# Altium integrated library AMP Memory Module DIMM II.IntLib: 46 symbols (part 2 of 2)
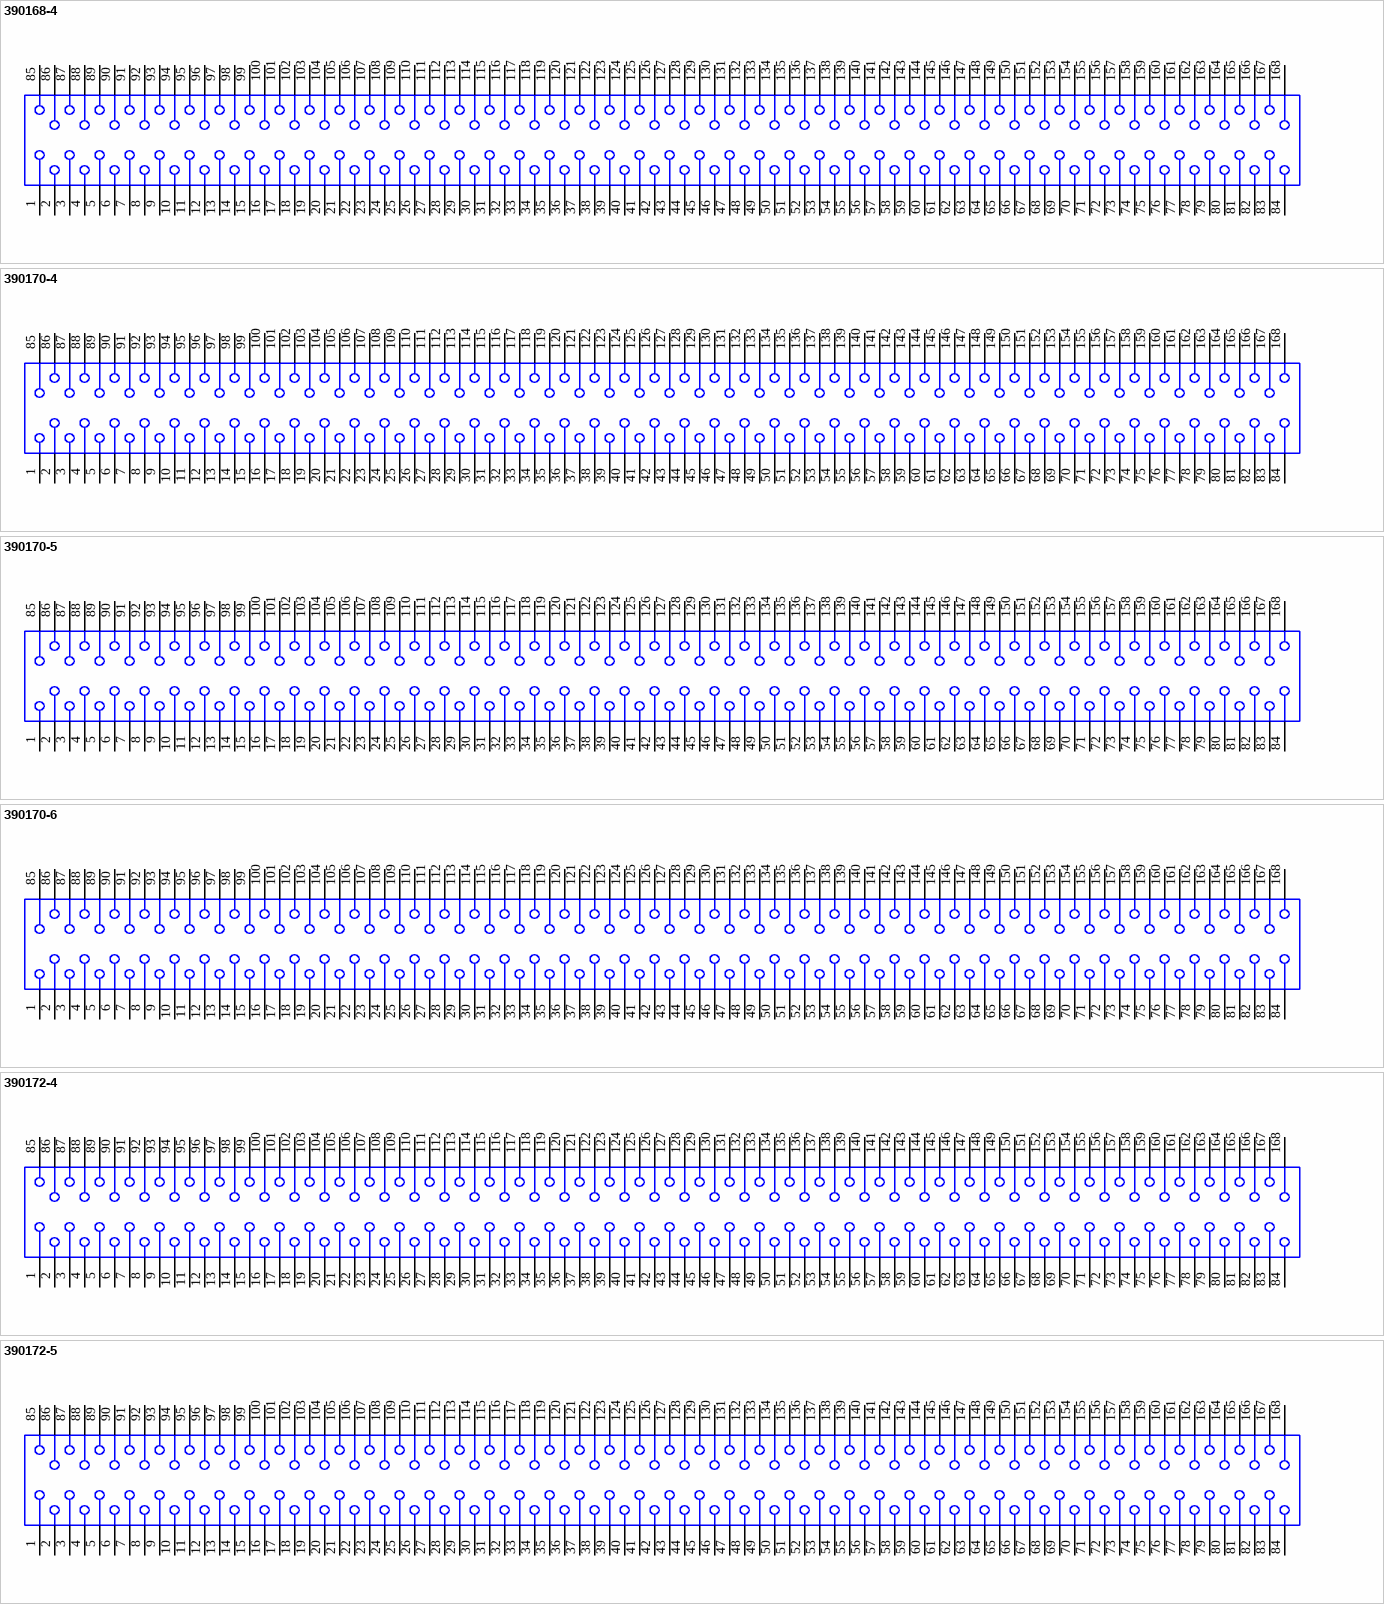
[diagram p8: symbols 390168-4 to 390172-5]

## 390170-6
designator J?
168 Position, Center Plastic Post 2.60 [.103] Soldertail, Low Profile DIMM 2P; Positions: 168; Rows: Dual; InsertionStyle: Direct Insert; EjectorLocation: Both Ends; PCB_Layout: Complies with manufacturer's recommendation.; DrillSize: Corresponds to nominal value.; ComponentAvailability: Obsolete; Published: 15-Jun-2001; LatestRevisionDate: 17-Jul-2002; LatestRevisionNote: Re-released for DXP Platform.; DatasheetDocument: 2-Apr-1998; PackageDocument: 02-Apr-1998; PackageReference: 390170-6; Publisher: Altium Limited; Orientation: 25°; ComponentLink1Description: Manufacturer Link; ComponentLink1URL: http://www.tycoelectronics.com/; ComponentLink2Description: Packaging Specification; ComponentLink2URL: http://ecommas.tycoelectronics.com/commerce/DocumentDelivery/DDEController?Action=showdoc&DocId=Customer+Drawing%7F390170%7FD%7Fpdf%7FEnglish%7FC_390170_D.pdf
footprint 390170-6 (Connector; DIMM II; 168 Position; Orientation 25°)
signal-integrity model Memory Module
pins: 1, 2, 3, 4, 5, 6, 7, 8, 9, 10, 11, 12, 13, 14, 15, 16, 17, 18, 19, 20, 21, 22, 23, 24, 25, 26, 27, 28, 29, 30, 31, 32, 33, 34, 35, 36, 37, 38, 39, 40, 41, 42, 43, 44, 45, 46, 47, 48, 49, 50, 51, 52, 53, 54, 55, 56, 57, 58, 59, 60, 61, 62, 63, 64, 65, 66, 67, 68, 69, 70, 71, 72, 73, 74, 75, 76, 77, 78, 79, 80, 81, 82, 83, 84, 85, 86, 87, 88, 89, 90, 91, 92, 93, 94, 95, 96, 97, 98, 99, 100, 101, 102, 103, 104, 105, 106, 107, 108, 109, 110, 111, 112, 113, 114, 115, 116, 117, 118, 119, 120, 121, 122, 123, 124, 125, 126, 127, 128, 129, 130, 131, 132, 133, 134, 135, 136, 137, 138, 139, 140, 141, 142, 143, 144, 145, 146, 147, 148, 149, 150, 151, 152, 153, 154, 155, 156, 157, 158, 159, 160, 161, 162, 163, 164, 165, 166, 167, 168

## 390172-4
designator J?
Dual Read-Out, Right Angle, DIMM Version II, 168 Position, 17.78mm Locking Extractors (No Barb); Positions: 168; InsertionStyle: Direct Insert; EjectorLocation: Both Ends; PCB_Layout: Complies with manufacturer's recommendation.; DrillSize: Corresponds to nominal value.; Published: 15-Jun-2001; LatestRevisionDate: 17-Jul-2002; LatestRevisionNote: Re-released for DXP Platform.; DatasheetDocument: 29-Jun-1998; PackageDocument: 29-Jun-1998; PackageReference: 390172-4; Publisher: Altium Limited; Orientation: Right Angle; Rows: Dual; ComponentLink1Description: Manufacturer Link; ComponentLink1URL: http://www.tycoelectronics.com/; ComponentLink2Description: Packaging Specification; ComponentLink2URL: http://ecommas.tycoelectronics.com/commerce/DocumentDelivery/DDEController?Action=showdoc&DocId=Customer+Drawing%7F390172%7FM%7Fpdf%7FEnglish%7FC_390172_M.pdf
footprint 390172-4 (Connector; DIMM II; 168 Position; Right Angle)
signal-integrity model Memory Module
pins: 1, 2, 3, 4, 5, 6, 7, 8, 9, 10, 11, 12, 13, 14, 15, 16, 17, 18, 19, 20, 21, 22, 23, 24, 25, 26, 27, 28, 29, 30, 31, 32, 33, 34, 35, 36, 37, 38, 39, 40, 41, 42, 43, 44, 45, 46, 47, 48, 49, 50, 51, 52, 53, 54, 55, 56, 57, 58, 59, 60, 61, 62, 63, 64, 65, 66, 67, 68, 69, 70, 71, 72, 73, 74, 75, 76, 77, 78, 79, 80, 81, 82, 83, 84, 85, 86, 87, 88, 89, 90, 91, 92, 93, 94, 95, 96, 97, 98, 99, 100, 101, 102, 103, 104, 105, 106, 107, 108, 109, 110, 111, 112, 113, 114, 115, 116, 117, 118, 119, 120, 121, 122, 123, 124, 125, 126, 127, 128, 129, 130, 131, 132, 133, 134, 135, 136, 137, 138, 139, 140, 141, 142, 143, 144, 145, 146, 147, 148, 149, 150, 151, 152, 153, 154, 155, 156, 157, 158, 159, 160, 161, 162, 163, 164, 165, 166, 167, 168

## 390172-5
designator J?
Dual Read-Out, Right Angle, DIMM Version II, 168 Position, 17.78mm Locking Extractors (No Barb); Positions: 168; InsertionStyle: Direct Insert; EjectorLocation: Both Ends; PCB_Layout: Complies with manufacturer's recommendation.; DrillSize: Corresponds to nominal value.; Published: 15-Jun-2001; LatestRevisionDate: 17-Jul-2002; LatestRevisionNote: Re-released for DXP Platform.; DatasheetDocument: 29-Jun-1998; PackageDocument: 29-Jun-1998; PackageReference: 390172-5; Publisher: Altium Limited; Orientation: Right Angle; Rows: Dual; ComponentLink1Description: Manufacturer Link; ComponentLink1URL: http://www.tycoelectronics.com/; ComponentLink2Description: Packaging Specification; ComponentLink2URL: http://ecommas.tycoelectronics.com/commerce/DocumentDelivery/DDEController?Action=showdoc&DocId=Customer+Drawing%7F390172%7FM%7Fpdf%7FEnglish%7FC_390172_M.pdf
footprint 390172-5 (Connector; DIMM II; 168 Position; Right Angle)
signal-integrity model Memory Module
pins: 1, 2, 3, 4, 5, 6, 7, 8, 9, 10, 11, 12, 13, 14, 15, 16, 17, 18, 19, 20, 21, 22, 23, 24, 25, 26, 27, 28, 29, 30, 31, 32, 33, 34, 35, 36, 37, 38, 39, 40, 41, 42, 43, 44, 45, 46, 47, 48, 49, 50, 51, 52, 53, 54, 55, 56, 57, 58, 59, 60, 61, 62, 63, 64, 65, 66, 67, 68, 69, 70, 71, 72, 73, 74, 75, 76, 77, 78, 79, 80, 81, 82, 83, 84, 85, 86, 87, 88, 89, 90, 91, 92, 93, 94, 95, 96, 97, 98, 99, 100, 101, 102, 103, 104, 105, 106, 107, 108, 109, 110, 111, 112, 113, 114, 115, 116, 117, 118, 119, 120, 121, 122, 123, 124, 125, 126, 127, 128, 129, 130, 131, 132, 133, 134, 135, 136, 137, 138, 139, 140, 141, 142, 143, 144, 145, 146, 147, 148, 149, 150, 151, 152, 153, 154, 155, 156, 157, 158, 159, 160, 161, 162, 163, 164, 165, 166, 167, 168

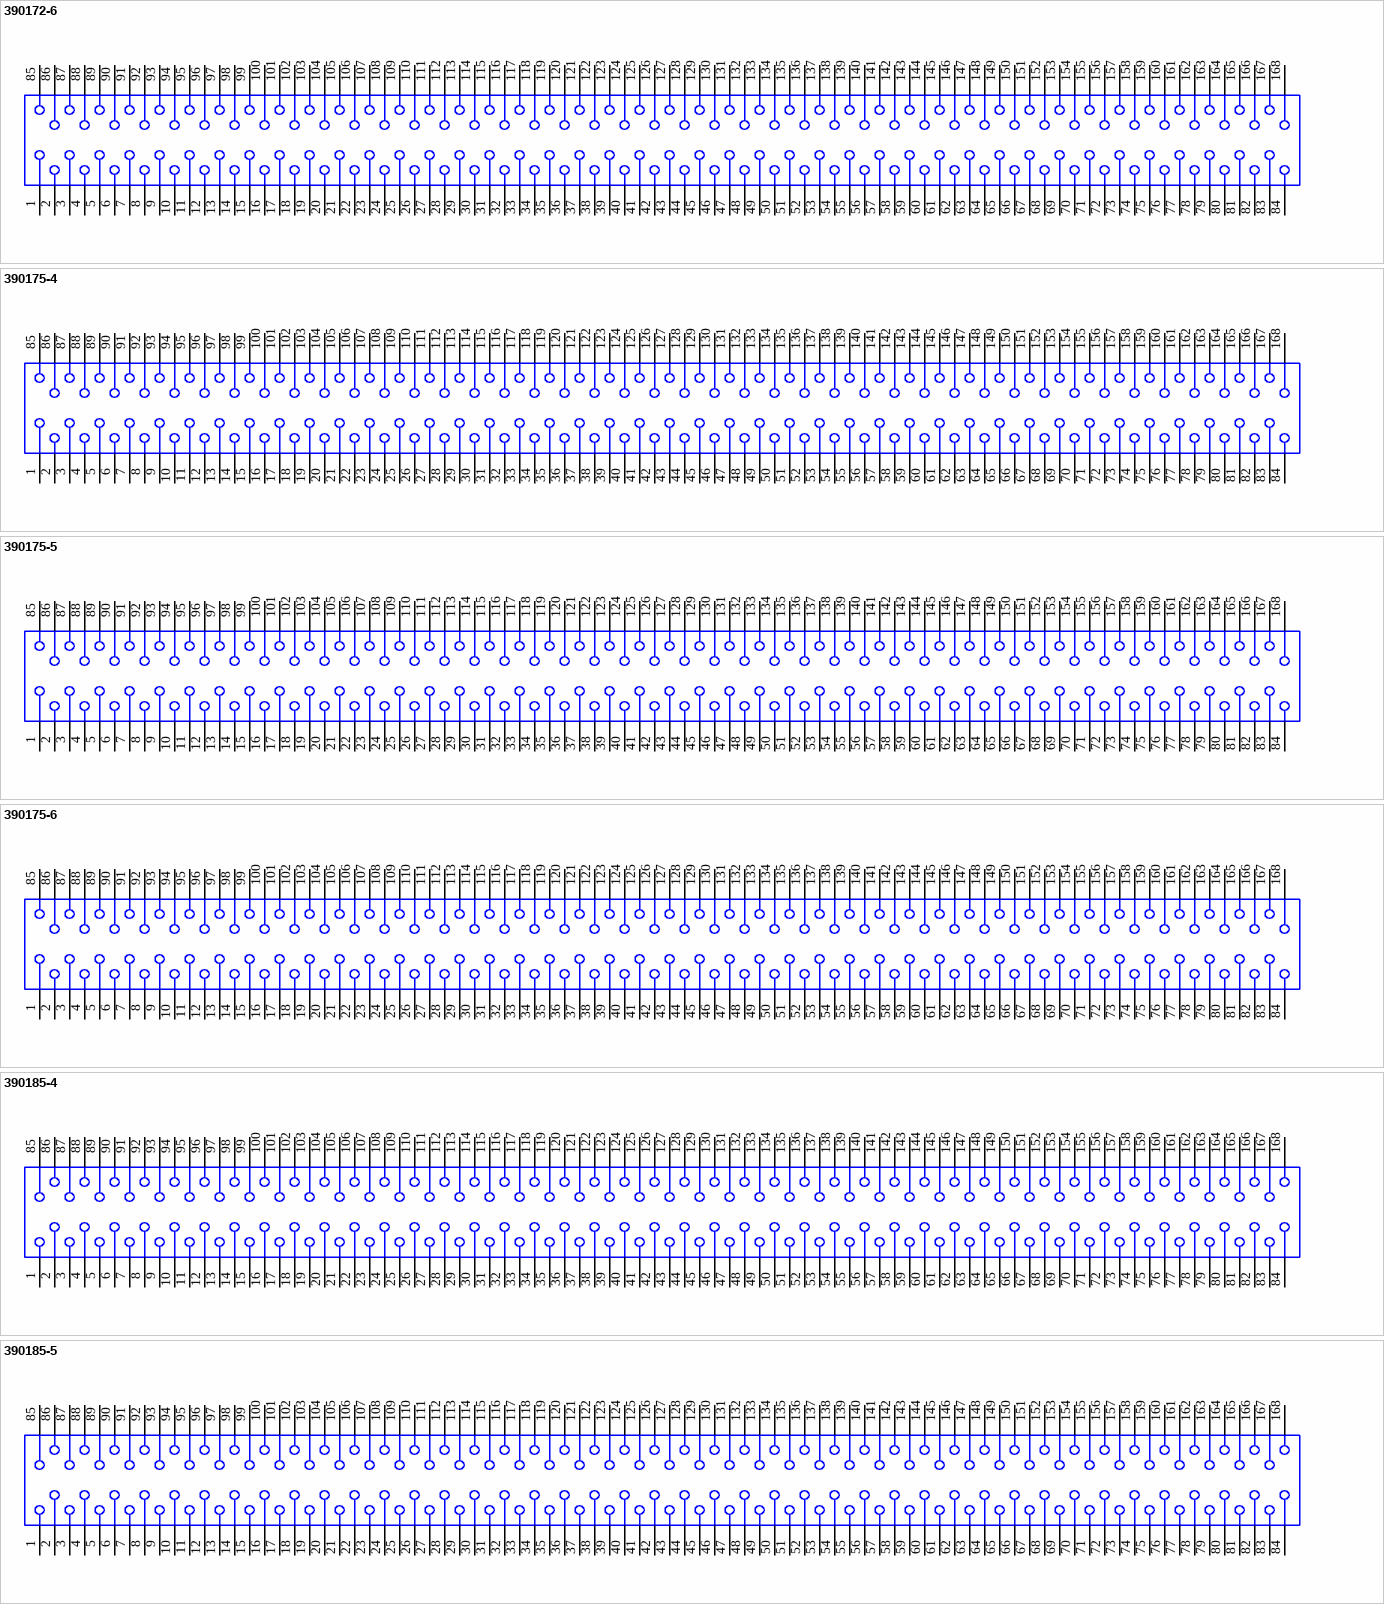
[diagram p5: symbols 390172-6 to 390185-5]

## 390172-6
designator J?
Dual Read-Out, Right Angle, DIMM Version II, 168 Position, 17.78mm Locking Extractors (No Barb); Positions: 168; InsertionStyle: Direct Insert; EjectorLocation: Both Ends; PCB_Layout: Complies with manufacturer's recommendation.; DrillSize: Corresponds to nominal value.; Published: 15-Jun-2001; LatestRevisionDate: 17-Jul-2002; LatestRevisionNote: Re-released for DXP Platform.; DatasheetDocument: 29-Jun-1998; PackageDocument: 29-Jun-1998; PackageReference: 390172-6; Publisher: Altium Limited; Orientation: Right Angle; Rows: Dual; ComponentLink1Description: Manufacturer Link; ComponentLink1URL: http://www.tycoelectronics.com/; ComponentLink2Description: Packaging Specification; ComponentLink2URL: http://ecommas.tycoelectronics.com/commerce/DocumentDelivery/DDEController?Action=showdoc&DocId=Customer+Drawing%7F390172%7FM%7Fpdf%7FEnglish%7FC_390172_M.pdf
footprint 390172-6 (Connector; DIMM II; 168 Position; Right Angle)
signal-integrity model Memory Module
pins: 1, 2, 3, 4, 5, 6, 7, 8, 9, 10, 11, 12, 13, 14, 15, 16, 17, 18, 19, 20, 21, 22, 23, 24, 25, 26, 27, 28, 29, 30, 31, 32, 33, 34, 35, 36, 37, 38, 39, 40, 41, 42, 43, 44, 45, 46, 47, 48, 49, 50, 51, 52, 53, 54, 55, 56, 57, 58, 59, 60, 61, 62, 63, 64, 65, 66, 67, 68, 69, 70, 71, 72, 73, 74, 75, 76, 77, 78, 79, 80, 81, 82, 83, 84, 85, 86, 87, 88, 89, 90, 91, 92, 93, 94, 95, 96, 97, 98, 99, 100, 101, 102, 103, 104, 105, 106, 107, 108, 109, 110, 111, 112, 113, 114, 115, 116, 117, 118, 119, 120, 121, 122, 123, 124, 125, 126, 127, 128, 129, 130, 131, 132, 133, 134, 135, 136, 137, 138, 139, 140, 141, 142, 143, 144, 145, 146, 147, 148, 149, 150, 151, 152, 153, 154, 155, 156, 157, 158, 159, 160, 161, 162, 163, 164, 165, 166, 167, 168

## 390175-4
designator J?
Dual Read-Out, Right Angle, DIMM Version II, 168 Position 17.78mm Locking Extractors; Positions: 168; InsertionStyle: Direct Insert; EjectorLocation: Both Ends; PCB_Layout: Complies with manufacturer's recommendation.; DrillSize: Corresponds to nominal value.; ComponentAvailability: Obsolete; Published: 15-Jun-2001; LatestRevisionDate: 17-Jul-2002; LatestRevisionNote: Re-released for DXP Platform.; DatasheetDocument: 23-Jun-1998; PackageDocument: 23-Jun-1998; PackageReference: 390175-4; Publisher: Altium Limited; Orientation: Right Angle; Rows: Dual; ComponentLink1Description: Manufacturer Link; ComponentLink1URL: http://www.tycoelectronics.com/; ComponentLink2Description: Packaging Specification; ComponentLink2URL: http://ecommas.tycoelectronics.com/commerce/DocumentDelivery/DDEController?Action=showdoc&DocId=Customer+Drawing%7F390175%7FN%7Fpdf%7FEnglish%7FC_390175_N.pdf
footprint 390175-4 (Connector; DIMM II; 168 Position; Right Angle)
signal-integrity model Memory Module
pins: 1, 2, 3, 4, 5, 6, 7, 8, 9, 10, 11, 12, 13, 14, 15, 16, 17, 18, 19, 20, 21, 22, 23, 24, 25, 26, 27, 28, 29, 30, 31, 32, 33, 34, 35, 36, 37, 38, 39, 40, 41, 42, 43, 44, 45, 46, 47, 48, 49, 50, 51, 52, 53, 54, 55, 56, 57, 58, 59, 60, 61, 62, 63, 64, 65, 66, 67, 68, 69, 70, 71, 72, 73, 74, 75, 76, 77, 78, 79, 80, 81, 82, 83, 84, 85, 86, 87, 88, 89, 90, 91, 92, 93, 94, 95, 96, 97, 98, 99, 100, 101, 102, 103, 104, 105, 106, 107, 108, 109, 110, 111, 112, 113, 114, 115, 116, 117, 118, 119, 120, 121, 122, 123, 124, 125, 126, 127, 128, 129, 130, 131, 132, 133, 134, 135, 136, 137, 138, 139, 140, 141, 142, 143, 144, 145, 146, 147, 148, 149, 150, 151, 152, 153, 154, 155, 156, 157, 158, 159, 160, 161, 162, 163, 164, 165, 166, 167, 168

## 390175-5
designator J?
Dual Read-Out, Right Angle, DIMM Version II, 168 Position 17.78mm Locking Extractors; Positions: 168; InsertionStyle: Direct Insert; EjectorLocation: Both Ends; PCB_Layout: Complies with manufacturer's recommendation.; DrillSize: Corresponds to nominal value.; ComponentAvailability: Obsolete; Published: 15-Jun-2001; LatestRevisionDate: 17-Jul-2002; LatestRevisionNote: Re-released for DXP Platform.; DatasheetDocument: 23-Jun-1998; PackageDocument: 23-Jun-1998; PackageReference: 390175-5; Publisher: Altium Limited; Orientation: Right Angle; Rows: Dual; ComponentLink1Description: Manufacturer Link; ComponentLink1URL: http://www.tycoelectronics.com/; ComponentLink2Description: Packaging Specification; ComponentLink2URL: http://ecommas.tycoelectronics.com/commerce/DocumentDelivery/DDEController?Action=showdoc&DocId=Customer+Drawing%7F390175%7FN%7Fpdf%7FEnglish%7FC_390175_N.pdf
footprint 390175-5 (Connector; DIMM II; 168 Position; Right Angle)
signal-integrity model Memory Module
pins: 1, 2, 3, 4, 5, 6, 7, 8, 9, 10, 11, 12, 13, 14, 15, 16, 17, 18, 19, 20, 21, 22, 23, 24, 25, 26, 27, 28, 29, 30, 31, 32, 33, 34, 35, 36, 37, 38, 39, 40, 41, 42, 43, 44, 45, 46, 47, 48, 49, 50, 51, 52, 53, 54, 55, 56, 57, 58, 59, 60, 61, 62, 63, 64, 65, 66, 67, 68, 69, 70, 71, 72, 73, 74, 75, 76, 77, 78, 79, 80, 81, 82, 83, 84, 85, 86, 87, 88, 89, 90, 91, 92, 93, 94, 95, 96, 97, 98, 99, 100, 101, 102, 103, 104, 105, 106, 107, 108, 109, 110, 111, 112, 113, 114, 115, 116, 117, 118, 119, 120, 121, 122, 123, 124, 125, 126, 127, 128, 129, 130, 131, 132, 133, 134, 135, 136, 137, 138, 139, 140, 141, 142, 143, 144, 145, 146, 147, 148, 149, 150, 151, 152, 153, 154, 155, 156, 157, 158, 159, 160, 161, 162, 163, 164, 165, 166, 167, 168

## 390175-6
designator J?
Dual Read-Out, Right Angle, DIMM Version II, 168 Position 17.78mm Locking Extractors; Positions: 168; InsertionStyle: Direct Insert; EjectorLocation: Both Ends; PCB_Layout: Complies with manufacturer's recommendation.; DrillSize: Corresponds to nominal value.; ComponentAvailability: Obsolete; Published: 15-Jun-2001; LatestRevisionDate: 17-Jul-2002; LatestRevisionNote: Re-released for DXP Platform.; DatasheetDocument: 23-Jun-1998; PackageDocument: 23-Jun-1998; PackageReference: 390175-6; Publisher: Altium Limited; Orientation: Right Angle; Rows: Dual; ComponentLink1Description: Manufacturer Link; ComponentLink1URL: http://www.tycoelectronics.com/; ComponentLink2Description: Packaging Specification; ComponentLink2URL: http://ecommas.tycoelectronics.com/commerce/DocumentDelivery/DDEController?Action=showdoc&DocId=Customer+Drawing%7F390175%7FN%7Fpdf%7FEnglish%7FC_390175_N.pdf
footprint 390175-6 (Connector; DIMM II; 168 Position; Right Angle)
signal-integrity model Memory Module
pins: 1, 2, 3, 4, 5, 6, 7, 8, 9, 10, 11, 12, 13, 14, 15, 16, 17, 18, 19, 20, 21, 22, 23, 24, 25, 26, 27, 28, 29, 30, 31, 32, 33, 34, 35, 36, 37, 38, 39, 40, 41, 42, 43, 44, 45, 46, 47, 48, 49, 50, 51, 52, 53, 54, 55, 56, 57, 58, 59, 60, 61, 62, 63, 64, 65, 66, 67, 68, 69, 70, 71, 72, 73, 74, 75, 76, 77, 78, 79, 80, 81, 82, 83, 84, 85, 86, 87, 88, 89, 90, 91, 92, 93, 94, 95, 96, 97, 98, 99, 100, 101, 102, 103, 104, 105, 106, 107, 108, 109, 110, 111, 112, 113, 114, 115, 116, 117, 118, 119, 120, 121, 122, 123, 124, 125, 126, 127, 128, 129, 130, 131, 132, 133, 134, 135, 136, 137, 138, 139, 140, 141, 142, 143, 144, 145, 146, 147, 148, 149, 150, 151, 152, 153, 154, 155, 156, 157, 158, 159, 160, 161, 162, 163, 164, 165, 166, 167, 168

## 390185-4
designator J?
168 Position, Center Plastic Post 3.18 [.125] Soldertail, Low Profile DIMM 2P; Positions: 168; Rows: Dual; InsertionStyle: Direct Insert; EjectorLocation: Both Ends; PCB_Layout: Complies with manufacturer's recommendation.; DrillSize: Corresponds to nominal value.; Published: 15-Jun-2001; LatestRevisionDate: 17-Jul-2002; LatestRevisionNote: Re-released for DXP Platform.; DatasheetDocument: 2-Apr-1998; PackageDocument: 02-Apr-1998; PackageReference: 390185-4; Publisher: Altium Limited; Orientation: 25°; ComponentLink1Description: Manufacturer Link; ComponentLink1URL: http://www.tycoelectronics.com/; ComponentLink2Description: Packaging Specification; ComponentLink2URL: http://ecommas.tycoelectronics.com/commerce/DocumentDelivery/DDEController?Action=showdoc&DocId=Customer+Drawing%7F390185%7FE%7Fpdf%7FEnglish%7FENG_CD_390185_E.pdf
footprint 390185-4 (Connector; DIMM II; 168 Position; Orientation 25°)
signal-integrity model Memory Module
pins: 1, 2, 3, 4, 5, 6, 7, 8, 9, 10, 11, 12, 13, 14, 15, 16, 17, 18, 19, 20, 21, 22, 23, 24, 25, 26, 27, 28, 29, 30, 31, 32, 33, 34, 35, 36, 37, 38, 39, 40, 41, 42, 43, 44, 45, 46, 47, 48, 49, 50, 51, 52, 53, 54, 55, 56, 57, 58, 59, 60, 61, 62, 63, 64, 65, 66, 67, 68, 69, 70, 71, 72, 73, 74, 75, 76, 77, 78, 79, 80, 81, 82, 83, 84, 85, 86, 87, 88, 89, 90, 91, 92, 93, 94, 95, 96, 97, 98, 99, 100, 101, 102, 103, 104, 105, 106, 107, 108, 109, 110, 111, 112, 113, 114, 115, 116, 117, 118, 119, 120, 121, 122, 123, 124, 125, 126, 127, 128, 129, 130, 131, 132, 133, 134, 135, 136, 137, 138, 139, 140, 141, 142, 143, 144, 145, 146, 147, 148, 149, 150, 151, 152, 153, 154, 155, 156, 157, 158, 159, 160, 161, 162, 163, 164, 165, 166, 167, 168

## 390185-5
designator J?
168 Position, Center Plastic Post 3.18 [.125] Soldertail, Low Profile DIMM 2P; Positions: 168; Rows: Dual; InsertionStyle: Direct Insert; EjectorLocation: Both Ends; PCB_Layout: Complies with manufacturer's recommendation.; DrillSize: Corresponds to nominal value.; Published: 15-Jun-2001; LatestRevisionDate: 17-Jul-2002; LatestRevisionNote: Re-released for DXP Platform.; DatasheetDocument: 2-Apr-1998; PackageDocument: 02-Apr-1998; PackageReference: 390185-5; Publisher: Altium Limited; Orientation: 25°; ComponentLink1Description: Manufacturer Link; ComponentLink1URL: http://www.tycoelectronics.com/; ComponentLink2Description: Packaging Specification; ComponentLink2URL: http://ecommas.tycoelectronics.com/commerce/DocumentDelivery/DDEController?Action=showdoc&DocId=Customer+Drawing%7F390185%7FE%7Fpdf%7FEnglish%7FENG_CD_390185_E.pdf
footprint 390185-5 (Connector; DIMM II; 168 Position; Orientation 25°)
signal-integrity model Memory Module
pins: 1, 2, 3, 4, 5, 6, 7, 8, 9, 10, 11, 12, 13, 14, 15, 16, 17, 18, 19, 20, 21, 22, 23, 24, 25, 26, 27, 28, 29, 30, 31, 32, 33, 34, 35, 36, 37, 38, 39, 40, 41, 42, 43, 44, 45, 46, 47, 48, 49, 50, 51, 52, 53, 54, 55, 56, 57, 58, 59, 60, 61, 62, 63, 64, 65, 66, 67, 68, 69, 70, 71, 72, 73, 74, 75, 76, 77, 78, 79, 80, 81, 82, 83, 84, 85, 86, 87, 88, 89, 90, 91, 92, 93, 94, 95, 96, 97, 98, 99, 100, 101, 102, 103, 104, 105, 106, 107, 108, 109, 110, 111, 112, 113, 114, 115, 116, 117, 118, 119, 120, 121, 122, 123, 124, 125, 126, 127, 128, 129, 130, 131, 132, 133, 134, 135, 136, 137, 138, 139, 140, 141, 142, 143, 144, 145, 146, 147, 148, 149, 150, 151, 152, 153, 154, 155, 156, 157, 158, 159, 160, 161, 162, 163, 164, 165, 166, 167, 168

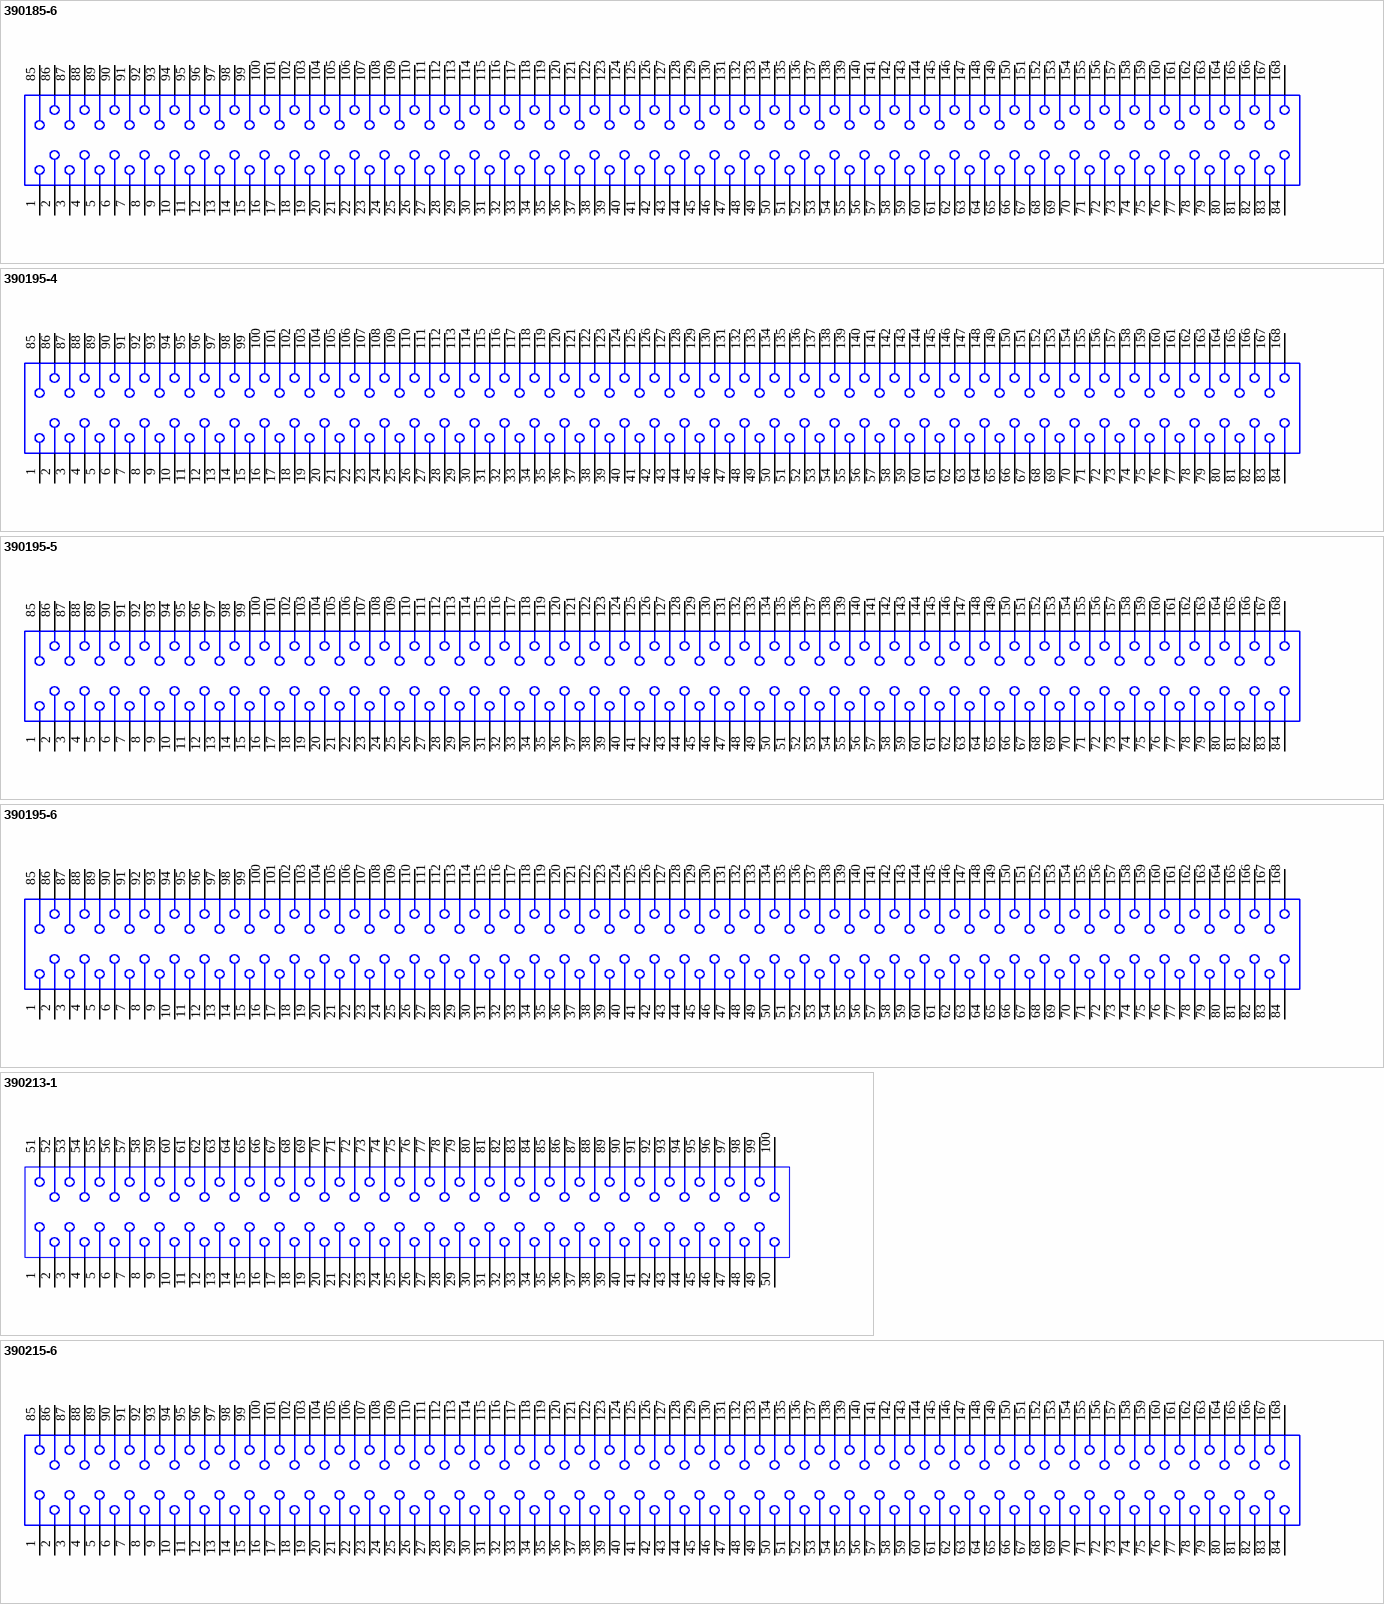
[diagram p6: symbols 390185-6 to 390215-6]

## 390185-6
designator J?
168 Position, Center Plastic Post 3.18 [.125] Soldertail, Low Profile DIMM 2P; Positions: 168; Rows: Dual; InsertionStyle: Direct Insert; EjectorLocation: Both Ends; PCB_Layout: Complies with manufacturer's recommendation.; DrillSize: Corresponds to nominal value.; Published: 15-Jun-2001; LatestRevisionDate: 17-Jul-2002; LatestRevisionNote: Re-released for DXP Platform.; DatasheetDocument: 2-Apr-1998; PackageDocument: 02-Apr-1998; PackageReference: 390185-6; Publisher: Altium Limited; Orientation: 25°; ComponentLink1Description: Manufacturer Link; ComponentLink1URL: http://www.tycoelectronics.com/; ComponentLink2Description: Packaging Specification; ComponentLink2URL: http://ecommas.tycoelectronics.com/commerce/DocumentDelivery/DDEController?Action=showdoc&DocId=Customer+Drawing%7F390185%7FE%7Fpdf%7FEnglish%7FENG_CD_390185_E.pdf
footprint 390185-6 (Connector; DIMM II; 168 Position; Orientation 25°)
signal-integrity model Memory Module
pins: 1, 2, 3, 4, 5, 6, 7, 8, 9, 10, 11, 12, 13, 14, 15, 16, 17, 18, 19, 20, 21, 22, 23, 24, 25, 26, 27, 28, 29, 30, 31, 32, 33, 34, 35, 36, 37, 38, 39, 40, 41, 42, 43, 44, 45, 46, 47, 48, 49, 50, 51, 52, 53, 54, 55, 56, 57, 58, 59, 60, 61, 62, 63, 64, 65, 66, 67, 68, 69, 70, 71, 72, 73, 74, 75, 76, 77, 78, 79, 80, 81, 82, 83, 84, 85, 86, 87, 88, 89, 90, 91, 92, 93, 94, 95, 96, 97, 98, 99, 100, 101, 102, 103, 104, 105, 106, 107, 108, 109, 110, 111, 112, 113, 114, 115, 116, 117, 118, 119, 120, 121, 122, 123, 124, 125, 126, 127, 128, 129, 130, 131, 132, 133, 134, 135, 136, 137, 138, 139, 140, 141, 142, 143, 144, 145, 146, 147, 148, 149, 150, 151, 152, 153, 154, 155, 156, 157, 158, 159, 160, 161, 162, 163, 164, 165, 166, 167, 168

## 390195-4
designator J?
Low Profile (25° Angle) DIMM 2P Socket Center Metal Board Lock, 168 Position; Positions: 168; Rows: Dual; InsertionStyle: Direct Insert; EjectorLocation: Both Ends; PCB_Layout: Complies with manufacturer's recommendation.; DrillSize: Corresponds to nominal value.; Published: 15-Jun-2001; LatestRevisionDate: 17-Jul-2002; LatestRevisionNote: Re-released for DXP Platform.; DatasheetDocument: 24-Nov-1998; PackageDocument: 24-Nov-1998; PackageReference: 390195-4; Publisher: Altium Limited; Orientation: 25°; ComponentLink1Description: Manufacturer Link; ComponentLink1URL: http://www.tycoelectronics.com/; ComponentLink2Description: Packaging Specification; ComponentLink2URL: http://ecommas.tycoelectronics.com/commerce/DocumentDelivery/DDEController?Action=showdoc&DocId=Customer+Drawing%7F390195%7FC%7Ftif%7FEnglish%7FC_390195_C.tif
footprint 390195-4 (Connector; DIMM II; 168 Position; Orientation 25°)
signal-integrity model Memory Module
pins: 1, 2, 3, 4, 5, 6, 7, 8, 9, 10, 11, 12, 13, 14, 15, 16, 17, 18, 19, 20, 21, 22, 23, 24, 25, 26, 27, 28, 29, 30, 31, 32, 33, 34, 35, 36, 37, 38, 39, 40, 41, 42, 43, 44, 45, 46, 47, 48, 49, 50, 51, 52, 53, 54, 55, 56, 57, 58, 59, 60, 61, 62, 63, 64, 65, 66, 67, 68, 69, 70, 71, 72, 73, 74, 75, 76, 77, 78, 79, 80, 81, 82, 83, 84, 85, 86, 87, 88, 89, 90, 91, 92, 93, 94, 95, 96, 97, 98, 99, 100, 101, 102, 103, 104, 105, 106, 107, 108, 109, 110, 111, 112, 113, 114, 115, 116, 117, 118, 119, 120, 121, 122, 123, 124, 125, 126, 127, 128, 129, 130, 131, 132, 133, 134, 135, 136, 137, 138, 139, 140, 141, 142, 143, 144, 145, 146, 147, 148, 149, 150, 151, 152, 153, 154, 155, 156, 157, 158, 159, 160, 161, 162, 163, 164, 165, 166, 167, 168

## 390195-5
designator J?
Low Profile (25° Angle) DIMM 2P Socket Center Metal Board Lock, 168 Position; Positions: 168; Rows: Dual; InsertionStyle: Direct Insert; EjectorLocation: Both Ends; PCB_Layout: Complies with manufacturer's recommendation.; DrillSize: Corresponds to nominal value.; Published: 15-Jun-2001; LatestRevisionDate: 17-Jul-2002; LatestRevisionNote: Re-released for DXP Platform.; DatasheetDocument: 24-Nov-1998; PackageDocument: 24-Nov-1998; PackageReference: 390195-5; Publisher: Altium Limited; Orientation: 25°; ComponentLink1Description: Manufacturer Link; ComponentLink1URL: http://www.tycoelectronics.com/; ComponentLink2Description: Packaging Specification; ComponentLink2URL: http://ecommas.tycoelectronics.com/commerce/DocumentDelivery/DDEController?Action=showdoc&DocId=Customer+Drawing%7F390195%7FC%7Ftif%7FEnglish%7FC_390195_C.tif
footprint 390195-5 (Connector; DIMM II; 168 Position; Orientation 25°)
signal-integrity model Memory Module
pins: 1, 2, 3, 4, 5, 6, 7, 8, 9, 10, 11, 12, 13, 14, 15, 16, 17, 18, 19, 20, 21, 22, 23, 24, 25, 26, 27, 28, 29, 30, 31, 32, 33, 34, 35, 36, 37, 38, 39, 40, 41, 42, 43, 44, 45, 46, 47, 48, 49, 50, 51, 52, 53, 54, 55, 56, 57, 58, 59, 60, 61, 62, 63, 64, 65, 66, 67, 68, 69, 70, 71, 72, 73, 74, 75, 76, 77, 78, 79, 80, 81, 82, 83, 84, 85, 86, 87, 88, 89, 90, 91, 92, 93, 94, 95, 96, 97, 98, 99, 100, 101, 102, 103, 104, 105, 106, 107, 108, 109, 110, 111, 112, 113, 114, 115, 116, 117, 118, 119, 120, 121, 122, 123, 124, 125, 126, 127, 128, 129, 130, 131, 132, 133, 134, 135, 136, 137, 138, 139, 140, 141, 142, 143, 144, 145, 146, 147, 148, 149, 150, 151, 152, 153, 154, 155, 156, 157, 158, 159, 160, 161, 162, 163, 164, 165, 166, 167, 168

## 390195-6
designator J?
Low Profile (25° Angle) DIMM 2P Socket Center Metal Board Lock, 168 Position; Positions: 168; Rows: Dual; InsertionStyle: Direct Insert; EjectorLocation: Both Ends; PCB_Layout: Complies with manufacturer's recommendation.; DrillSize: Corresponds to nominal value.; Published: 15-Jun-2001; LatestRevisionDate: 17-Jul-2002; LatestRevisionNote: Re-released for DXP Platform.; DatasheetDocument: 24-Nov-1998; PackageDocument: 24-Nov-1998; PackageReference: 390195-6; Publisher: Altium Limited; Orientation: 25°; ComponentLink1Description: Manufacturer Link; ComponentLink1URL: http://www.tycoelectronics.com/; ComponentLink2Description: Packaging Specification; ComponentLink2URL: http://ecommas.tycoelectronics.com/commerce/DocumentDelivery/DDEController?Action=showdoc&DocId=Customer+Drawing%7F390195%7FC%7Ftif%7FEnglish%7FC_390195_C.tif
footprint 390195-6 (Connector; DIMM II; 168 Position; Orientation 25°)
signal-integrity model Memory Module
pins: 1, 2, 3, 4, 5, 6, 7, 8, 9, 10, 11, 12, 13, 14, 15, 16, 17, 18, 19, 20, 21, 22, 23, 24, 25, 26, 27, 28, 29, 30, 31, 32, 33, 34, 35, 36, 37, 38, 39, 40, 41, 42, 43, 44, 45, 46, 47, 48, 49, 50, 51, 52, 53, 54, 55, 56, 57, 58, 59, 60, 61, 62, 63, 64, 65, 66, 67, 68, 69, 70, 71, 72, 73, 74, 75, 76, 77, 78, 79, 80, 81, 82, 83, 84, 85, 86, 87, 88, 89, 90, 91, 92, 93, 94, 95, 96, 97, 98, 99, 100, 101, 102, 103, 104, 105, 106, 107, 108, 109, 110, 111, 112, 113, 114, 115, 116, 117, 118, 119, 120, 121, 122, 123, 124, 125, 126, 127, 128, 129, 130, 131, 132, 133, 134, 135, 136, 137, 138, 139, 140, 141, 142, 143, 144, 145, 146, 147, 148, 149, 150, 151, 152, 153, 154, 155, 156, 157, 158, 159, 160, 161, 162, 163, 164, 165, 166, 167, 168

## 390213-1
designator J?
Vertical, DIMM 2P Low Insertion Force, 100 Position; Positions: 100; Rows: Dual; InsertionStyle: Direct Insert; EjectorLocation: Both Ends; PCB_Layout: Complies with manufacturer's recommendation.; DrillSize: Corresponds to nominal value.; Published: 15-Jun-2001; LatestRevisionDate: 17-Jul-2002; LatestRevisionNote: Re-released for DXP Platform.; DatasheetDocument: 21-Apr-1999; PackageDocument: 21-Apr-1999; PackageReference: 390213-1; Publisher: Altium Limited; Orientation: Vertical; ComponentLink1Description: Manufacturer Link; ComponentLink1URL: http://www.tycoelectronics.com/; ComponentLink2Description: Packaging Specification; ComponentLink2URL: http://ecommas.tycoelectronics.com/commerce/DocumentDelivery/DDEController?Action=showdoc&DocId=Customer+Drawing%7F390213%7FG%7Ftif%7FEnglish%7FENG_CD_390213_G.tif
footprint 390213-1 (Connector; DIMM II; 100 Position; Vertical)
signal-integrity model Memory Module
pins: 1 p1, 2 p2, 3 p3, 4 p4, 5 p5, 6 p6, 7 p7, 8 p8, 9 p9, 10 p10, 11 p11, 12 p12, 13 p13, 14 p14, 15 p15, 16 p16, 17 p17, 18 p18, 19 p19, 20 p20, 21 p21, 22 p22, 23 p23, 24 p24, 25 p25, 26 p26, 27 p27, 28 p28, 29 p29, 30 p30, 31 p31, 32 p32, 33 p33, 34 p34, 35 p35, 36 p36, 37 p37, 38 p38, 39 p39, 40 p40, 41 p41, 42 p42, 43 p43, 44 p44, 45 p45, 46 p46, 47 p47, 48 p48, 49 p49, 50 p50, 51 p51, 52 p52, 53 p53, 54 p54, 55 p55, 56 p56, 57 p57, 58 p58, 59 p59, 60 p60, 61 p61, 62 p62, 63 p63, 64 p64, 65 p65, 66 p66, 67 p67, 68 p68, 69 p69, 70 p70, 71 p71, 72 p72, 73 p73, 74 p74, 75 p75, 76 p76, 77 p77, 78 p78, 79 p79, 80 p80, 81 p81, 82 p82, 83 p83, 84 p84, 85 p85, 86 p86, 87 p87, 88 p88, 89 p89, 90 p90, 91 p91, 92 p92, 93 p93, 94 p94, 95 p95, 96 p96, 97 p97, 98 p98, 99 p99, 100 p100

## 390215-6
designator J?
Dual Read-Out, Vertical, DIMM Version II, 168 Position, 17.78mm Locking Extractors; Positions: 168; InsertionStyle: Direct Insert; EjectorLocation: Both Ends; PCB_Layout: Complies with manufacturer's recommendation.; DrillSize: Corresponds to nominal value.; ComponentAvailability: Obsolete; Published: 15-Jun-2001; LatestRevisionDate: 17-Jul-2002; LatestRevisionNote: Re-released for DXP Platform.; DatasheetDocument: 21-Aug-1996; PackageDocument: 21-Aug-1996; PackageReference: 390215-6; Publisher: Altium Limited; Orientation: Vertical; Rows: Dual; ComponentLink1Description: Manufacturer Link; ComponentLink1URL: http://www.tycoelectronics.com/; ComponentLink2Description: Packaging Specification; ComponentLink2URL: http://ecommas.tycoelectronics.com/commerce/DocumentDelivery/DDEController?Action=showdoc&DocId=Customer+Drawing%7F390215%7FE%7Ftif%7FEnglish%7FC_390215_E.tif
footprint 390215-6 (Connector; DIMM II; 168 Position; Vertical)
signal-integrity model Memory Module
pins: 1, 2, 3, 4, 5, 6, 7, 8, 9, 10, 11, 12, 13, 14, 15, 16, 17, 18, 19, 20, 21, 22, 23, 24, 25, 26, 27, 28, 29, 30, 31, 32, 33, 34, 35, 36, 37, 38, 39, 40, 41, 42, 43, 44, 45, 46, 47, 48, 49, 50, 51, 52, 53, 54, 55, 56, 57, 58, 59, 60, 61, 62, 63, 64, 65, 66, 67, 68, 69, 70, 71, 72, 73, 74, 75, 76, 77, 78, 79, 80, 81, 82, 83, 84, 85, 86, 87, 88, 89, 90, 91, 92, 93, 94, 95, 96, 97, 98, 99, 100, 101, 102, 103, 104, 105, 106, 107, 108, 109, 110, 111, 112, 113, 114, 115, 116, 117, 118, 119, 120, 121, 122, 123, 124, 125, 126, 127, 128, 129, 130, 131, 132, 133, 134, 135, 136, 137, 138, 139, 140, 141, 142, 143, 144, 145, 146, 147, 148, 149, 150, 151, 152, 153, 154, 155, 156, 157, 158, 159, 160, 161, 162, 163, 164, 165, 166, 167, 168

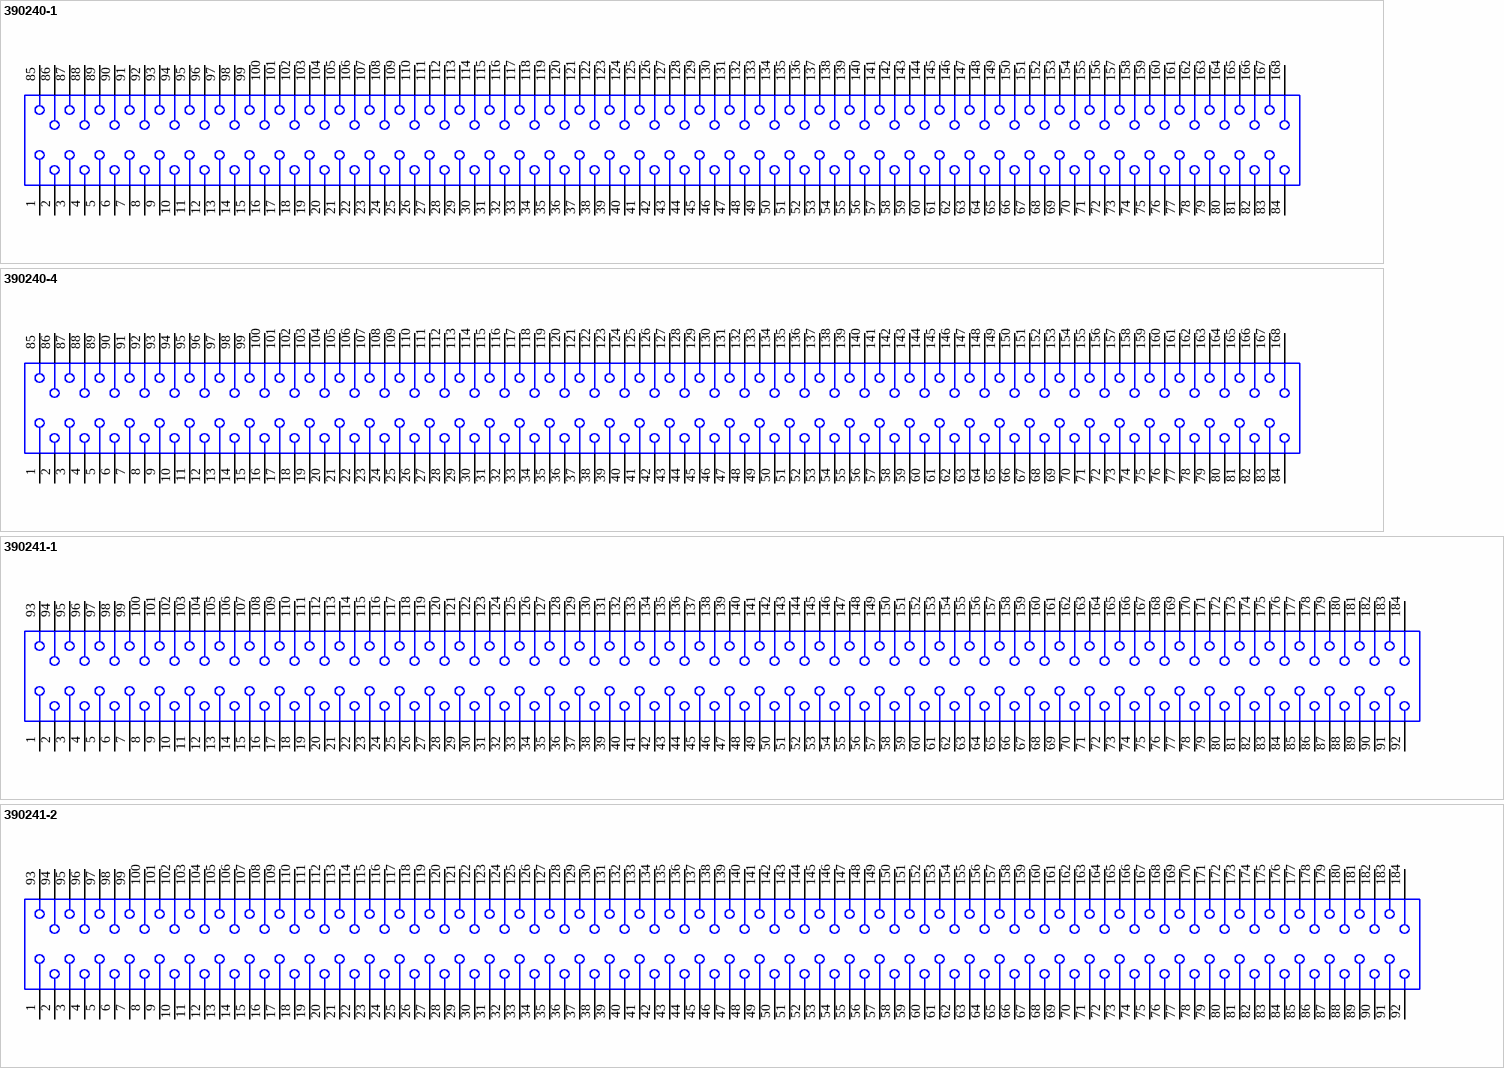
[diagram p7: symbols 390240-1 to 390241-2]

## 390240-1
designator J?
Vertical, DIMM 2P Low Insertion Force, 168 Position, with 3.30 [.130] S.T.; Positions: 168; Rows: Dual; InsertionStyle: Direct Insert; EjectorLocation: Both Ends; PCB_Layout: Complies with manufacturer's recommendation.; DrillSize: Corresponds to nominal value.; Published: 15-Jun-2001; LatestRevisionDate: 17-Jul-2002; LatestRevisionNote: Re-released for DXP Platform.; DatasheetDocument: 4-Jan-1999; PackageDocument: 04-Jan-1999; PackageReference: 390240-1; Publisher: Altium Limited; Orientation: Vertical; ComponentLink1Description: Manufacturer Link; ComponentLink1URL: http://www.tycoelectronics.com/; ComponentLink2Description: Packaging Specification; ComponentLink2URL: http://ecommas.tycoelectronics.com/commerce/DocumentDelivery/DDEController?Action=showdoc&DocId=Customer+Drawing%7F390240%7FB%7Ftif%7FEnglish%7FENG_CD_390240_B.tif
footprint 390240-1 (Connector; DIMM II; 168 Position; Vertical)
signal-integrity model Memory Module
pins: 1, 2, 3, 4, 5, 6, 7, 8, 9, 10, 11, 12, 13, 14, 15, 16, 17, 18, 19, 20, 21, 22, 23, 24, 25, 26, 27, 28, 29, 30, 31, 32, 33, 34, 35, 36, 37, 38, 39, 40, 41, 42, 43, 44, 45, 46, 47, 48, 49, 50, 51, 52, 53, 54, 55, 56, 57, 58, 59, 60, 61, 62, 63, 64, 65, 66, 67, 68, 69, 70, 71, 72, 73, 74, 75, 76, 77, 78, 79, 80, 81, 82, 83, 84, 85, 86, 87, 88, 89, 90, 91, 92, 93, 94, 95, 96, 97, 98, 99, 100, 101, 102, 103, 104, 105, 106, 107, 108, 109, 110, 111, 112, 113, 114, 115, 116, 117, 118, 119, 120, 121, 122, 123, 124, 125, 126, 127, 128, 129, 130, 131, 132, 133, 134, 135, 136, 137, 138, 139, 140, 141, 142, 143, 144, 145, 146, 147, 148, 149, 150, 151, 152, 153, 154, 155, 156, 157, 158, 159, 160, 161, 162, 163, 164, 165, 166, 167, 168

## 390240-4
designator J?
Vertical, DIMM 2P Low Insertion Force, 168 Position, with 3.30 [.130] S.T; Positions: 168; Rows: Dual; InsertionStyle: Direct Insert; EjectorLocation: Both Ends; PCB_Layout: Complies with manufacturer's recommendation.; DrillSize: Corresponds to nominal value.; Published: 15-Jun-2001; LatestRevisionDate: 17-Jul-2002; LatestRevisionNote: Re-released for DXP Platform.; DatasheetDocument: 4-Jan-1999; PackageDocument: 04-Jan-1999; PackageReference: 390240-4; Publisher: Altium Limited; Orientation: Vertical; ComponentLink1Description: Manufacturer Link; ComponentLink1URL: http://www.tycoelectronics.com/; ComponentLink2Description: Packaging Specification; ComponentLink2URL: http://ecommas.tycoelectronics.com/commerce/DocumentDelivery/DDEController?Action=showdoc&DocId=Customer+Drawing%7F390240%7FB%7Ftif%7FEnglish%7FENG_CD_390240_B.tif
footprint 390240-4 (Connector; DIMM II; 168 Position; Vertical)
signal-integrity model Memory Module
pins: 1, 2, 3, 4, 5, 6, 7, 8, 9, 10, 11, 12, 13, 14, 15, 16, 17, 18, 19, 20, 21, 22, 23, 24, 25, 26, 27, 28, 29, 30, 31, 32, 33, 34, 35, 36, 37, 38, 39, 40, 41, 42, 43, 44, 45, 46, 47, 48, 49, 50, 51, 52, 53, 54, 55, 56, 57, 58, 59, 60, 61, 62, 63, 64, 65, 66, 67, 68, 69, 70, 71, 72, 73, 74, 75, 76, 77, 78, 79, 80, 81, 82, 83, 84, 85, 86, 87, 88, 89, 90, 91, 92, 93, 94, 95, 96, 97, 98, 99, 100, 101, 102, 103, 104, 105, 106, 107, 108, 109, 110, 111, 112, 113, 114, 115, 116, 117, 118, 119, 120, 121, 122, 123, 124, 125, 126, 127, 128, 129, 130, 131, 132, 133, 134, 135, 136, 137, 138, 139, 140, 141, 142, 143, 144, 145, 146, 147, 148, 149, 150, 151, 152, 153, 154, 155, 156, 157, 158, 159, 160, 161, 162, 163, 164, 165, 166, 167, 168

## 390241-1
designator J?
Vertical, DIMM 2P Low Insertion Force, 184 Position; Positions: 184; Rows: Dual; InsertionStyle: Direct Insert; EjectorLocation: Both Ends; PCB_Layout: Complies with manufacturer's recommendation.; DrillSize: Corresponds to nominal value.; Published: 15-Jun-2001; LatestRevisionDate: 17-Jul-2002; LatestRevisionNote: Re-released for DXP Platform.; DatasheetDocument: 7-Apr-1999; PackageDocument: 07-Apr-1999; PackageReference: 390241-1; Publisher: Altium Limited; Orientation: Vertical; ComponentLink1Description: Manufacturer Link; ComponentLink1URL: http://www.tycoelectronics.com/; ComponentLink2Description: Packaging Specification; ComponentLink2URL: http://ecommas.tycoelectronics.com/commerce/DocumentDelivery/DDEController?Action=showdoc&DocId=Customer+Drawing%7F390241%7FW%7Ftif%7FEnglish%7FENG_CD_390241_W.tif
footprint 390241-1 (Connector; DIMM II; 184 Position; Vertical)
signal-integrity model Memory Module
pins: 1 p1, 2 p2, 3 p3, 4 p4, 5 p5, 6 p6, 7 p7, 8 p8, 9 p9, 10 p10, 11 p11, 12 p12, 13 p13, 14 p14, 15 p15, 16 p16, 17 p17, 18 p18, 19 p19, 20 p20, 21 p21, 22 p22, 23 p23, 24 p24, 25 p25, 26 p26, 27 p27, 28 p28, 29 p29, 30 p30, 31 p31, 32 p32, 33 p33, 34 p34, 35 p35, 36 p36, 37 p37, 38 p38, 39 p39, 40 p40, 41 p41, 42 p42, 43 p43, 44 p44, 45 p45, 46 p46, 47 p47, 48 p48, 49 p49, 50 p50, 51 p51, 52 p52, 53 p53, 54 p54, 55 p55, 56 p56, 57 p57, 58 p58, 59 p59, 60 p60, 61 p61, 62 p62, 63 p63, 64 p64, 65 p65, 66 p66, 67 p67, 68 p68, 69 p69, 70 p70, 71 p71, 72 p72, 73 p73, 74 p74, 75 p75, 76 p76, 77 p77, 78 p78, 79 p79, 80 p80, 81 p81, 82 p82, 83 p83, 84 p84, 85 p85, 86 p86, 87 p87, 88 p88, 89 p89, 90 p90, 91 p91, 92 p92, 93 p93, 94 p94, 95 p95, 96 p96, 97 p97, 98 p98, 99 p99, 100 p100, 101 p101, 102 p102, 103 p103, 104 p104, 105 p105, 106 p106, 107 p107, 108 p108, 109 p109, 110 p110, 111 p111, 112 p112, 113 p113, 114 p114, 115 p115, 116 p116, 117 p117, 118 p118, 119 p119, 120 p120, 121 p121, 122 p122, 123 p123, 124 p124, 125 p125, 126 p126, 127 p127, 128 p128, 129 p129, 130 p130, 131 p131, 132 p132, 133 p133, 134 p134, 135 p135, 136 p136, 137 p137, 138 p138, 139 p139, 140 p140, 141 p141, 142 p142, 143 p143, 144 p144, 145 p145, 146 p146, 147 p147, 148 p148, 149 p149, 150 p150, 151 p151, 152 p152, 153 p153, 154 p154, 155 p155, 156 p156, 157 p157, 158 p158, 159 p159, 160 p160, 161 p161, 162 p162, 163 p163, 164 p164, 165 p165, 166 p166, 167 p167, 168 p168, 169 p169, 170 p170, 171 p171, 172 p172, 173 p173, 174 p174, 175 p175, 176 p176, 177 p177, 178 p178, 179 p179, 180 p180, 181 p181, 182 p182, 183 p183, 184 p184

## 390241-2
designator J?
Vertical, DIMM 2P Low Insertion Force, 184 Position; Positions: 184; Rows: Dual; InsertionStyle: Direct Insert; EjectorLocation: Both Ends; PCB_Layout: Complies with manufacturer's recommendation.; DrillSize: Corresponds to nominal value.; Published: 15-Jun-2001; LatestRevisionDate: 17-Jul-2002; LatestRevisionNote: Re-released for DXP Platform.; DatasheetDocument: 7-Apr-1999; PackageDocument: 07-Apr-1999; PackageReference: 390241-2; Publisher: Altium Limited; Orientation: Vertical; ComponentLink1Description: Manufacturer Link; ComponentLink1URL: http://www.tycoelectronics.com/; ComponentLink2Description: Packaging Specification; ComponentLink2URL: http://ecommas.tycoelectronics.com/commerce/DocumentDelivery/DDEController?Action=showdoc&DocId=Customer+Drawing%7F390241%7FW%7Ftif%7FEnglish%7FENG_CD_390241_W.tif
footprint 390241-2 (Connector; DIMM II; 184 Position; Vertical)
signal-integrity model Memory Module
pins: 1 p1, 2 p2, 3 p3, 4 p4, 5 p5, 6 p6, 7 p7, 8 p8, 9 p9, 10 p10, 11 p11, 12 p12, 13 p13, 14 p14, 15 p15, 16 p16, 17 p17, 18 p18, 19 p19, 20 p20, 21 p21, 22 p22, 23 p23, 24 p24, 25 p25, 26 p26, 27 p27, 28 p28, 29 p29, 30 p30, 31 p31, 32 p32, 33 p33, 34 p34, 35 p35, 36 p36, 37 p37, 38 p38, 39 p39, 40 p40, 41 p41, 42 p42, 43 p43, 44 p44, 45 p45, 46 p46, 47 p47, 48 p48, 49 p49, 50 p50, 51 p51, 52 p52, 53 p53, 54 p54, 55 p55, 56 p56, 57 p57, 58 p58, 59 p59, 60 p60, 61 p61, 62 p62, 63 p63, 64 p64, 65 p65, 66 p66, 67 p67, 68 p68, 69 p69, 70 p70, 71 p71, 72 p72, 73 p73, 74 p74, 75 p75, 76 p76, 77 p77, 78 p78, 79 p79, 80 p80, 81 p81, 82 p82, 83 p83, 84 p84, 85 p85, 86 p86, 87 p87, 88 p88, 89 p89, 90 p90, 91 p91, 92 p92, 93 p93, 94 p94, 95 p95, 96 p96, 97 p97, 98 p98, 99 p99, 100 p100, 101 p101, 102 p102, 103 p103, 104 p104, 105 p105, 106 p106, 107 p107, 108 p108, 109 p109, 110 p110, 111 p111, 112 p112, 113 p113, 114 p114, 115 p115, 116 p116, 117 p117, 118 p118, 119 p119, 120 p120, 121 p121, 122 p122, 123 p123, 124 p124, 125 p125, 126 p126, 127 p127, 128 p128, 129 p129, 130 p130, 131 p131, 132 p132, 133 p133, 134 p134, 135 p135, 136 p136, 137 p137, 138 p138, 139 p139, 140 p140, 141 p141, 142 p142, 143 p143, 144 p144, 145 p145, 146 p146, 147 p147, 148 p148, 149 p149, 150 p150, 151 p151, 152 p152, 153 p153, 154 p154, 155 p155, 156 p156, 157 p157, 158 p158, 159 p159, 160 p160, 161 p161, 162 p162, 163 p163, 164 p164, 165 p165, 166 p166, 167 p167, 168 p168, 169 p169, 170 p170, 171 p171, 172 p172, 173 p173, 174 p174, 175 p175, 176 p176, 177 p177, 178 p178, 179 p179, 180 p180, 181 p181, 182 p182, 183 p183, 184 p184